# Altium schematic symbol library Connectors-Other.SchLib: 4 symbols
Pins are listed as number, name and electrical type; pins without a type are passive.

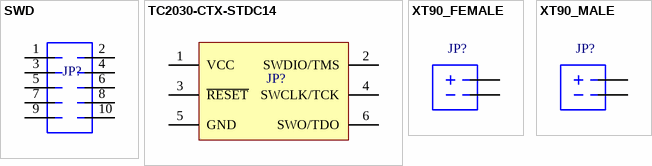
[diagram p0: symbols SWD to XT90_MALE]

## SWD
designator JP?, comment 1.27mm SWD Connector  (value not drawn)
Manufacturer: Samtec; PartNumber: FTSH-105-01-F-DV; Mounting Technology: SMD; PackageReference: Header-1.27mm-2x5
footprint SWD-SMD
pins: 1, 2, 3, 4, 5, 6, 7, 8, 9, 10

## TC2030-CTX-STDC14
designator JP?  (value not drawn)
Manufacturer: Tag-Connect; Mounting Technology: N/A; PartNumber: TC2030-CTX-STDC14
footprint TC2030-CTX-STDC14
pins: 1 VCC, 2 SWDIO/TMS, 3 ~{RESET}, 4 SWCLK/TCK, 5 GND, 6 SWO/TDO

## XT90_FEMALE
designator JP?
Mounting Technology: Through Hole; PackageReference: XT90
footprint XT90-FEMALE
pins: +, -

## XT90_MALE
designator JP?
Mounting Technology: Through Hole; PackageReference: XT90
footprint XT90-MALE
pins: +, -